# Altium footprint library ProtoStack_H750VBT.PcbLib: 87 footprints (part 1 of 6)
Each footprint in its own frame and in the unit in brackets; x right, y up, seen from the top. Pads: shape width x height; smd on the part's side, far side on the other; paste and mask are expansions set on the pad; w line width, h text height; cw(c..) or ccw(c..) is an arc to the next point about the centre after c.
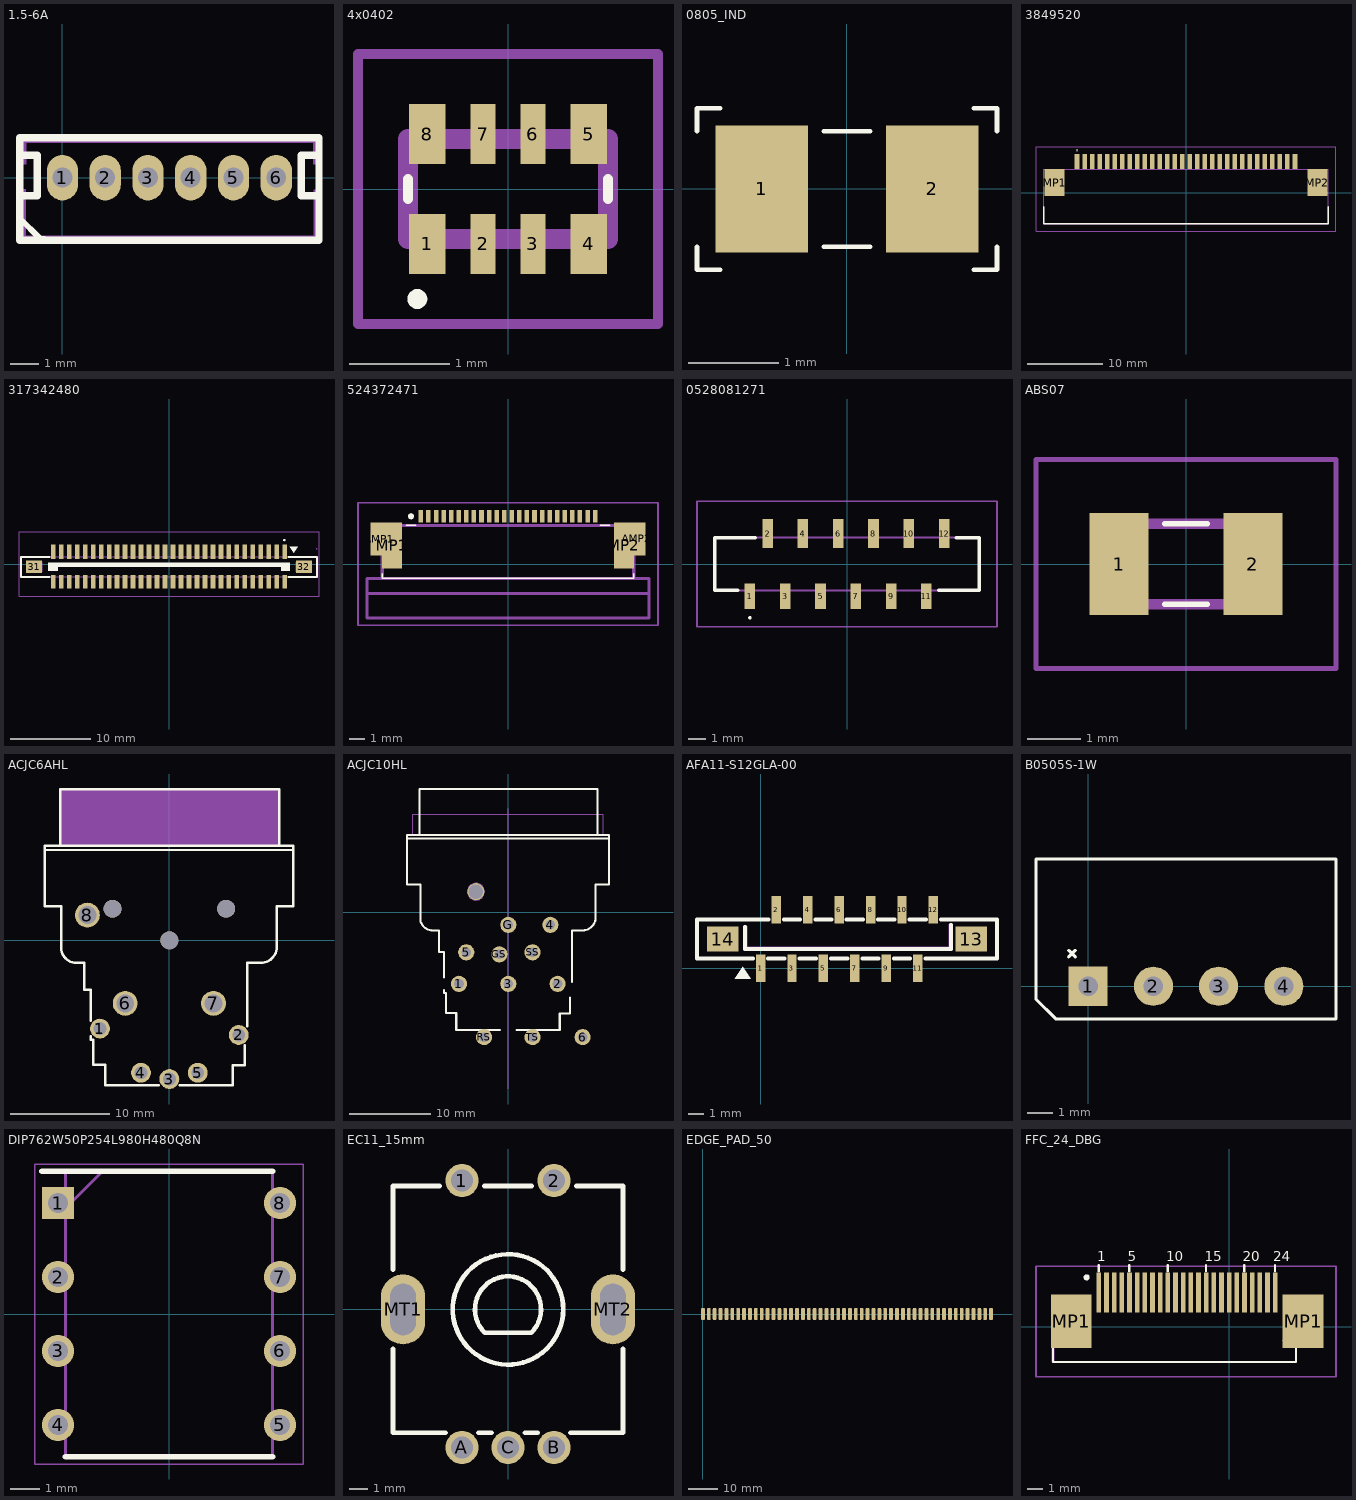
[diagram p0: the footprints below, top view; thin cyan lines are the x and y axes]

## 1.5-6A [mm] "Pin Header p=1.5mm, 6 pins"
pads (6):
  oval 1.1x1.6 hole 0.7: 1(0,0) 2(1.5,0) 3(3,0) 4(4.5,0) 5(6,0) 6(7.5,0)
Top Overlay:
  lines w0.203: -1.524,-1.397 -0.762,-2.159 -0.635,-2.159
  lines w0.254: -1.5,-0.64 -0.88,-0.64 -0.88,0.781 -1.5,0.781 ; -1.5,1.4 -1.5,-2.2 9,-2.2 9,1.4 -1.48,1.4 ; 9,-0.64 8.38,-0.64 8.38,0.781 9,0.781
Mechanical 15:
  region: -1.47,-0.41 -1.47,-2.2 9,-2.2 9,-0.42 8.81,-0.42 8.81,-2.04 -1.28,-2.04 -1.28,-0.41
  region: -1.47,0.46 -1.47,1.4 9,1.4 9,0.46 8.8,0.46 8.8,1.22 -1.27,1.22 -1.27,0.46
3D body: height 6, standoff 0, extent -1.4,-2.1 8.9,1.3

## 4x0402 [mm]
pads (8):
  rect 0.365x0.6 smd: 1(-0.807,-0.55) 4(0.807,-0.55) 5(0.807,0.55) 8(-0.807,0.55)
  rect 0.25x0.6 smd: 2(-0.25,-0.55) 3(0.25,-0.55) 6(0.25,0.55) 7(-0.25,0.55)
Top Overlay:
  lines w0.1: -1,-0.1 -1,0.1 ; 1,-0.1 1,0.1 ; -0.957,-1.1 ccw(c-0.907,-1.1) -0.857,-1.1 ccw(c-0.907,-1.1) -0.957,-1.1
Mechanical 13:
  lines w0.2: -1,-0.5 1,-0.5 1,0.5 -1,0.5 -1,-0.5
Mechanical 15:
  lines w0.1: -1.5,-1.35 1.5,-1.35 1.5,1.35 -1.5,1.35 -1.5,-1.35
3D body "EXB-N8V101JX.stp": height 0.65, standoff 0, extent -1,-0.825 1,0.825

## 0805_IND [mil]
pads (2):
  rect 40x55 smd: 1(-37,0) 2(37,0)
Top Overlay:
  lines w2: -65,-25 -65,-35 -55,-35 ; -65,25 -65,35 -55,35 ; -10,-25 10,-25 ; -10,25 10,25 ; 55,-35 65,-35 65,-25 ; 55,35 65,35 65,25
3D body "0805.STEP": height 48.61, standoff -0.61, extent -39.37,-20.67 39.37,20.67

## 3849520 [mm]
pads (32):
  rect 0.61x2 smd: 1(-14.5,4.15) 2(-13.5,4.15) 3(-12.5,4.15) 4(-11.5,4.15) 5(-10.5,4.15) 6(-9.5,4.15) 7(-8.5,4.15) 8(-7.5,4.15) 9(-6.5,4.15) 10(-5.5,4.15) 11(-4.5,4.15) 12(-3.5,4.15) 13(-2.5,4.15) 14(-1.5,4.15) 15(-0.5,4.15) 16(0.5,4.15) 17(1.5,4.15) 18(2.5,4.15) 19(3.5,4.15) 20(4.5,4.15) 21(5.5,4.15) 22(6.5,4.15) 23(7.5,4.15) 24(8.5,4.15) 25(9.5,4.15) 26(10.5,4.15) 27(11.5,4.15) 28(12.5,4.15) 29(13.5,4.15) 30(14.5,4.15)
  rect 2.68x3.6 smd: MP1(-17.49,1.35) MP2(17.49,1.35)
Top Overlay:
  lines w0.1: -14.5,5.6 cw(c-14.5,5.65) -14.5,5.7 cw(c-14.5,5.65) -14.5,5.6
  lines w0.2: -18.96,-1.85 -18.96,-4.15 18.96,-4.15 18.96,-1.85
Mechanical 13:
  lines w0.1: -18.96,-4.15 -18.96,3.15 18.96,3.15 18.96,-4.15 -18.96,-4.15
Mechanical 15:
  lines w0.1: -19.96,-5.15 -19.96,6.15 19.96,6.15 19.96,-5.15 -19.96,-5.15
3D body "3-84952-0.stp": height 2.56, standoff 0, extent -18.965,-2.2 18.965,4.34

## 317342480 [mm]
pads (62):
  rect 0.6x1.85 smd: 1(14.5,1.525) 3(13.5,1.525) 5(12.5,1.525) 7(11.5,1.525) 9(10.5,1.525) 11(9.5,1.525) 13(8.5,1.525) 15(7.5,1.525) 17(6.5,1.525) 19(5.5,1.525) 21(4.5,1.525) 23(3.5,1.525) 25(2.5,1.525) 27(1.5,1.525) 29(0.5,1.525) 31(-0.5,1.525) 33(-1.5,1.525) 35(-2.5,1.525) 37(-3.5,1.525) 39(-4.5,1.525) 41(-5.5,1.525) 43(-6.5,1.525) 45(-7.5,1.525) 47(-8.5,1.525) 49(-9.5,1.525) 51(-10.5,1.525) 53(-11.5,1.525) 55(-12.5,1.525) 57(-13.5,1.525) 59(-14.5,1.525)
  rect 0.6x1.65 smd: 2(14.5,-2.225) 4(13.5,-2.225) 6(12.5,-2.225) 8(11.5,-2.225) 10(10.5,-2.225) 12(9.5,-2.225) 14(8.5,-2.225) 16(7.5,-2.225) 18(6.5,-2.225) 20(5.5,-2.225) 22(4.5,-2.225) 24(3.5,-2.225) 26(2.5,-2.225) 28(1.5,-2.225) 30(0.5,-2.225) 32(-0.5,-2.225) 34(-1.5,-2.225) 36(-2.5,-2.225) 38(-3.5,-2.225) 40(-4.5,-2.225) 42(-5.5,-2.225) 44(-6.5,-2.225) 46(-7.5,-2.225) 48(-8.5,-2.225) 50(-9.5,-2.225) 52(-10.5,-2.225) 54(-11.5,-2.225) 56(-12.5,-2.225) 58(-13.5,-2.225) 60(-14.5,-2.225)
  rect 2x1.6 smd paste+0 mask+0.05: 31(-16.9,-0.35) 32(16.9,-0.35)
Top Overlay:
  region: 15.621,1.428 16.129,2.19 15.113,2.19
  region: 14.986,-0.858 14.097,-0.858 14.097,-0.35 -13.97,-0.35 -13.97,-0.858 -15.113,-0.858 -15.113,0.158 15.113,0.158 15.113,-0.858
  lines w0.2: 14.4,3 ccw(c14.45,3) 14.5,3 ; 14.4,3 cw(c14.45,3) 14.5,3 ; 14.4,3 ccw(c14.45,3) 14.5,3
  lines w0.254: -14.981,-1.6 -18.542,-1.6 -18.542,0.9 -14.981,0.9 ; 14.981,-1.6 18.542,-1.6 18.542,0.9 14.981,0.9
Mechanical 15:
  region: 17.5,-0.95 15.9,-0.95 15.9,0.25 17.5,0.25
  region: -15.9,-0.95 -17.5,-0.95 -17.5,0.25 -15.9,0.25
  region: 18.44,1.9 18.44,1.925 18.475,1.96 18.525,1.96 18.56,1.925 18.56,1.9 18.56,1.875 18.525,1.84 18.475,1.84 18.44,1.875
  lines w0.051: -18.5,-1.6 -18.5,0.9 18.5,0.9 18.5,-1.6 -18.5,-1.6
  lines w0.1: -18.8,-4.05 18.8,-4.05 18.8,4.05 -18.8,4.05 -18.8,-4.05
3D body "3-1734248-0.stp": height 5.68, standoff 0, extent -18.7,-2.68 18.7,2.17

## 524372471 [mm]
pads (28):
  rect 0.3x0.8 smd: 1(-5.75,3.15) 2(-5.25,3.15) 3(-4.75,3.15) 4(-4.25,3.15) 5(-3.75,3.15) 6(-3.25,3.15) 7(-2.75,3.15) 8(-2.25,3.15) 9(-1.75,3.15) 10(-1.25,3.15) 11(-0.75,3.15) 12(-0.25,3.15) 13(0.25,3.15) 14(0.75,3.15) 15(1.25,3.15) 16(1.75,3.15) 17(2.25,3.15) 18(2.75,3.15) 19(3.25,3.15) 20(3.75,3.15) 21(4.25,3.15) 22(4.75,3.15) 23(5.25,3.15) 24(5.75,3.15)
  rect 1.1x2.2 smd: AMP1(-8.509,1.65) AMP2(8.509,1.651)
  rect 1.3x3.05 smd: MP1(-7.65,1.225) MP2(7.65,1.225)
Top Overlay:
  lines w0.1: -8.3,-0.65 -8.3,-0.95 8.3,-0.95 8.3,-0.65 ; -6.7,2.55 -6.1,2.55 ; 6.1,2.55 6.7,2.55
  lines w0.2: -6.4,3.05 ccw(c-6.4,3.15) -6.4,3.25 ccw(c-6.4,3.15) -6.4,3.05
Mechanical 13:
  lines w0.2: -9.3,-1.95 -9.3,-3.55 9.3,-3.55 9.3,-1.95 ; -9.3,-1.95 9.3,-1.95 ; -9.3,-1.95 -9.3,-0.95 9.3,-0.95 9.3,-1.95 ; -9.3,-1.95 9.3,-1.95 ; -8.3,-0.95 -8.3,2.55 8.3,2.55 8.3,-0.95 -8.3,-0.95
Mechanical 15:
  lines w0.1: -9.9,-4.05 -9.9,4.05 9.9,4.05 9.9,-4.05 -9.9,-4.05
3D body "52437-2471.stp": height 2.04, standoff 0, extent -9.3,-1.9 9.3,3.3

## 0528081271 [mm]
pads (12):
  rect 0.6x1.45 smd: 1(-5.5,-1.825) 3(-3.5,-1.825) 5(-1.5,-1.825) 7(0.5,-1.825) 9(2.5,-1.825) 11(4.5,-1.825)
  rect 0.6x1.65 smd: 2(-4.5,1.725) 4(-2.5,1.725) 6(-0.5,1.725) 8(1.5,1.725) 10(3.5,1.725) 12(5.5,1.725)
Top Overlay:
  lines w0.1: -5.5,-3.1 cw(c-5.5,-3.05) -5.5,-3 cw(c-5.5,-3.05) -5.5,-3.1
  lines w0.2: -6.2,-1.5 -7.5,-1.5 -7.5,1.5 -5.2,1.5 ; 5.2,-1.5 7.5,-1.5 7.5,1.5 6.2,1.5
Mechanical 13:
  lines w0.1: -7.5,-1.5 7.5,-1.5 7.5,1.5 -7.5,1.5 -7.5,-1.5
Mechanical 15:
  lines w0.1: -8.5,-3.55 8.5,-3.55 8.5,3.55 -8.5,3.55 -8.5,-3.55
3D body "0528081271.stp": height 5.4, standoff 0, extent -7.5,-2.49 7.5,2.49

## ABS07 [mm]
pads (2):
  rect 1.1x1.9 smd: 1(-1.25,0) 2(1.25,0)
Top Overlay:
  lines w0.1: -0.4,-0.75 0.4,-0.75 ; -0.4,0.75 0.4,0.75
Mechanical 13:
  lines w0.2: -1.6,-0.75 -1.6,0.75 1.6,0.75 1.6,-0.75 -1.6,-0.75
Mechanical 15:
  lines w0.1: -2.8,-1.95 -2.8,1.95 2.8,1.95 2.8,-1.95 -2.8,-1.95
3D body "ABS07-32.768KHZ-7-T.stp": height 0.9, standoff 0, extent -1.6,-0.75 1.6,0.75

## ACJC6AHL [mm] "amphenol xlr"
pads (11):
  round 2 hole 1.3 paste-2539.97 mask+0.051: 1(-6.985,-8.89) 2(6.985,-9.525) 3(0,-13.97) 4(-2.858,-13.335) 5(2.858,-13.335)
  round 2.5 hole 1.8 paste-2539.97 mask+0.051: 6(-4.445,-6.35) 7(4.445,-6.35) 8(-8.255,2.54)
  round 1.8 hole 1.8 unplated paste-2539.97: ""(-5.715,3.175) ""(0,0) ""(5.715,3.175)
Top Overlay:
  lines w0.203: -12.446,9.105 12.446,9.105
  lines w0.254: -7.935,-9.672 -7.935,-10.015 -7.685,-10.015 -7.685,-12.515 -6.435,-12.515 -6.435,-14.615 -1.048,-14.615 ; -7.935,-8.108 -7.935,-4.965 -8.585,-4.965 -8.585,-2.265 -9.385,-2.265 cw(c-9.385,-0.765) -10.885,-0.765 -10.885,3.435 -12.535,3.435 -12.535,9.525 -11,9.525 ; 1.048,-14.615 6.365,-14.615 6.365,-12.565 7.615,-12.565 7.615,-10.582 ; 7.865,-8.665 7.865,-2.265 9.215,-2.265 ccw(c9.215,-0.665) 10.815,-0.665 10.815,3.435 12.465,3.435 12.465,9.535 11.049,9.535 ; 11,9.525 -11,9.525 ; 11.049,9.525 11.049,15.225 -11,15.225 -11,9.525
Mechanical 15:
  circle w0.8: c-5.715,3.175 r0.4
  circle w0.8: c0,0 r0.4
  circle w0.8: c5.715,3.175 r0.4
  region: 11.065,9.535 11.065,15.235 -10.985,15.235 -10.985,9.535
  lines w0.254: -10.567,12.43 -10.542,12.405
3D body "c3d-c-users-nlang-nextcloud-desktop-amphenol-projekte-drawings-3d-models-data-audio-c3d-acjc6ahl.stp": height 25.3, standoff -3.5, extent -12.617,-18.495 12.675,12.298

## ACJC10HL [mm] "https://www.digikey.nl/en/products/detail/amphenol-sine-systems-corp/ACJC10HL-BULK/13577736?s=N4IgTCBcDaIIIGEBSCCMAGAEgGRAXQF8g"
pads (12):
  round 2 hole 1.2 paste-2539.97 mask+0.051: 1(-6.1,-8.875) 2(6.1,-8.875) 3(0,-8.875) 4(5.2,-1.575) 5(-5.2,-4.975) 6(9.2,-15.475) G(0,-1.575) GS(-1.1,-5.225) RS(-3,-15.475) SS(3,-4.975) TS(3,-15.475)
  round 2.1 hole 1.8 unplated paste-2539.97: ""(-4,2.525)
Top Overlay:
  lines w0.203: -12.446,9.105 12.446,9.105
  lines w0.254: -7.935,-9.672 -7.935,-10.015 -7.685,-10.015 -7.685,-12.515 -6.435,-12.515 -6.435,-14.615 -1.048,-14.615 ; -7.935,-8.108 -7.935,-4.965 -8.585,-4.965 -8.585,-2.265 -9.385,-2.265 cw(c-9.385,-0.765) -10.885,-0.765 -10.885,3.435 -12.535,3.435 -12.535,9.525 -11,9.525 ; 1.048,-14.615 6.365,-14.615 6.365,-12.565 7.615,-12.565 7.615,-10.582 ; 7.865,-8.665 7.865,-2.265 9.215,-2.265 ccw(c9.215,-0.665) 10.815,-0.665 10.815,3.435 12.465,3.435 12.465,9.535 11.049,9.535 ; 11,9.525 -11,9.525 ; 11.049,9.525 11.049,15.225 -11,15.225 -11,9.525
Mechanical 6:
  circle w0.013: c6.1,-8.875 r0.6
  circle w0.013: c9.2,-15.475 r0.6
  circle w0.013: c-6.1,-8.875 r0.6
  circle w0.013: c-3,-15.475 r0.6
  circle w0.013: c3,-15.475 r0.6
  circle w0.013: c0,-8.875 r0.6
  circle w0.013: c3,-4.975 r0.6
  circle w0.013: c-1.1,-5.225 r0.6
  circle w0.013: c-5.2,-4.975 r0.6
  circle w0.013: c0,-1.575 r0.6
  circle w0.013: c5.2,-1.575 r0.6
  circle w0.013: c-4,2.525 r1.05
  lines w0.013: 0,-21.89 0,12.808 ; -11.795,9.525 -11.795,12.096 11.765,12.096 11.765,9.525 -11.795,9.525
3D body "c3d-c-users-nlang-nextcloud-desktop-amphenol-projekte-drawings-3d-models-data-audio-c3d-acjc10hl.stp": height 29.34, standoff -4.65, extent -13.596,-15.85 13.392,16.751

## AFA11-S12GLA-00 [mm]
pads (14):
  rect 0.6x1.75 smd paste+0 mask+0.05: 1(0,0) 2(1,3.75) 3(2,0) 4(3,3.75) 5(4,0) 6(5,3.75) 7(6,0) 8(7,3.75) 9(8,0) 10(9,3.75) 11(10,0) 12(11,3.75)
  rect 2x1.6 smd paste+0 mask+0.05: 13(13.4,1.875) 14(-2.4,1.875)
Top Overlay:
  region: -1.121,0.097 -1.629,-0.665 -0.613,-0.665
  lines w0.254: -0.977,2.637 -0.977,1.24 12.104,1.24 12.104,2.764 ; -0.481,0.625 -4.042,0.625 -4.042,3.125 0.519,3.125 ; 0.481,0.625 1.519,0.625 ; 1.481,3.125 2.519,3.125 ; 2.481,0.625 3.519,0.625 ; 3.481,3.125 4.519,3.125 ; 4.481,0.625 5.519,0.625 ; 5.481,3.125 6.519,3.125 ; 6.481,0.625 7.519,0.625 ; 7.481,3.125 8.519,3.125 ; 8.481,0.625 9.519,0.625 ; 9.481,3.125 10.519,3.125 ; 10.481,0.625 15.042,0.625 15.042,3.125 11.481,3.125
Mechanical 15:
  region: -0.85,2.637 -0.85,1.367 11.977,1.367 11.977,2.764 11.977,2.817 12.051,2.891 12.157,2.891 12.231,2.817 12.231,2.764 12.231,1.24 12.231,1.215 12.212,1.168 12.176,1.132 12.129,1.113 12.104,1.113 -0.977,1.113 -1.002,1.113 -1.049,1.132 -1.085,1.168 -1.104,1.215 -1.104,1.24 -1.104,2.637 -1.104,2.69 -1.03,2.764 -0.924,2.764 -0.85,2.69
3D body "SFW12S-2STE1LF.stp": height 5.35, standoff 0.05, extent -3.688,-0.345 14.712,4.155

## B0505S-1W [mil] "DC-DC module"
pads (4):
  rect 60x60 hole 30: 1(0,0)
  round 60 hole 30: 2(100,0) 3(200,0) 4(300,0)
Top Overlay:
  lines w5: -30,45 -20,55 ; -30,55 -20,45 ; -80,-20 -50,-50 380,-50 380,195 -80,195 -80,-20
3D body: height 401.57, standoff 0, extent -80,-50 380,195

## DIP762W50P254L980H480Q8N [mm]
pads (8):
  rect 1.1x1.1 hole 0.7: 1(-3.81,3.81)
  round 1.1 hole 0.7: 2(-3.81,1.27) 3(-3.81,-1.27) 4(-3.81,-3.81) 5(3.81,-3.81) 6(3.81,-1.27) 7(3.81,1.27) 8(3.81,3.81)
Top Overlay:
  lines w0.2: -4.36,4.9 3.55,4.9 ; -3.55,-4.9 3.55,-4.9
Mechanical 13:
  lines w0.1: -3.55,3.63 -2.28,4.9 ; -3.55,-4.9 3.55,-4.9 3.55,4.9 -3.55,4.9 -3.55,-4.9
Mechanical 15:
  lines w0.05: -4.61,-5.15 4.61,-5.15 4.61,5.15 -4.61,5.15 -4.61,-5.15
3D body "MC34063ACN.stp": height 4.8, standoff -3.5, extent -3.935,-4.9 3.935,4.9

## EC11_15mm [mm]
pads (7):
  round 1.8 hole 1.2: 1(-2.5,7) 2(2.5,7) A(-2.5,-7.5) B(2.5,-7.5) C(0,-7.5)
  oval 2.4x3.8 hole 1.4 slot 2.8 at 90 deg: MT1(-5.7,0) MT2(5.7,0)
Top Overlay:
  circle w0.254: c0,0 r3
  lines w0.254: -6.25,-2.15 -6.25,-6.7 -3.4,-6.7 ; -6.25,2.15 -6.25,6.7 -3.7,6.7 ; -1.6,-6.7 -0.9,-6.7 ; -1.275,6.7 1.275,6.7 ; 0.92,-6.7 1.62,-6.7 ; 3.4,-6.7 6.25,-6.7 6.25,-2.15 ; 3.7,6.7 6.25,6.7 ; 6.25,2.15 6.25,6.7 ; -1.27,-1.27 cw(c0,0) 1.27,-1.27 -1.27,-1.27
3D body "EC11B-SW-Vert-15F-blue.step": height 21.9, standoff -3.5, extent -6,-7.675 6,7.25

## EDGE_PAD_50 [mm]
pads (50):
  rrect50% 1.3x4 / inner round 0 / far side round 0 all layers, no hole mask+0.05: 1(0,0) 2(2,0) 3(4,0) 4(6,0) 5(8,0) 6(10,0) 7(12,0) 8(14,0) 9(16,0) 10(18,0) 11(20,0) 12(22,0) 13(24,0) 14(26,0) 15(28,0) 16(30,0) 17(32,0) 18(34,0) 19(36,0) 20(38,0) 21(40,0) 22(42,0) 23(44,0) 24(46,0) 25(48,0) 26(50,0) 27(52,0) 28(54,0) 29(56,0) 30(58,0) 31(60,0) 32(62,0) 33(64,0) 34(66,0) 35(68,0) 36(70,0) 37(72,0) 38(74,0) 39(76,0) 40(78,0) 41(80,0) 42(82,0) 43(84,0) 44(86,0) 45(88,0) 46(90,0) 47(92,0) 48(94,0) 49(96,0) 50(98,0)

## FFC_24_DBG [mm]
pads (26):
  rect 0.3x2.6 smd: 1(-8.5,2.25) 2(-8,2.25) 3(-7.5,2.25) 4(-7,2.25) 5(-6.5,2.25) 6(-6,2.25) 7(-5.5,2.25) 8(-5,2.25) 9(-4.5,2.25) 10(-4,2.25) 11(-3.5,2.25) 12(-3,2.25) 13(-2.5,2.25) 14(-2,2.25) 15(-1.5,2.25) 16(-1,2.25) 17(-0.5,2.25) 18(0,2.25) 19(0.5,2.25) 20(1,2.25) 21(1.5,2.25) 22(2,2.25) 23(2.5,2.25) 24(3,2.25)
  rect 2.65x3.5 smd: MP1(-10.312,0.356) MP1(4.812,0.356)
Top Overlay:
  lines w0.127: -11.5,-2.286 4.348,-2.286 4.348,-0.886 3.548,-0.886 ; -11.5,-2.25 -11.5,-0.85 -10.7,-0.85
  lines w0.152: -8.509,3.607 -8.509,4.013 ; -6.509,3.607 -6.509,4.013 ; -4.009,3.607 -4.009,4.013 ; -1.509,3.607 -1.509,4.013 ; 0.991,3.607 0.991,4.013 ; 2.983,3.607 2.983,4.013
  lines w0.2: -9.296,3.126 ccw(c-9.296,3.226) -9.296,3.326 ccw(c-9.296,3.226) -9.296,3.126
  text "1" at -8.611,4.293 h0.64
  text "5" at -6.611,4.293 h0.64
  text "10" at -4.111,4.293 h0.64
  text "15" at -1.611,4.293 h0.64
  text "20" at 0.889,4.293 h0.64
  text "24" at 2.881,4.293 h0.64
Mechanical 13:
  lines w0.2: -11.5,-2.25 -11.5,-0.85 ; -10.7,-0.85 -10.7,1.95
Mechanical 15:
  lines w0.102: -12.6,-3.25 6.964,-3.25 6.964,3.95 -12.6,3.95 -12.6,-3.25